# Altium schematic symbol library Connector.SchLib: 80 symbols
Pins are listed as number, name and electrical type; pins without a type are passive.

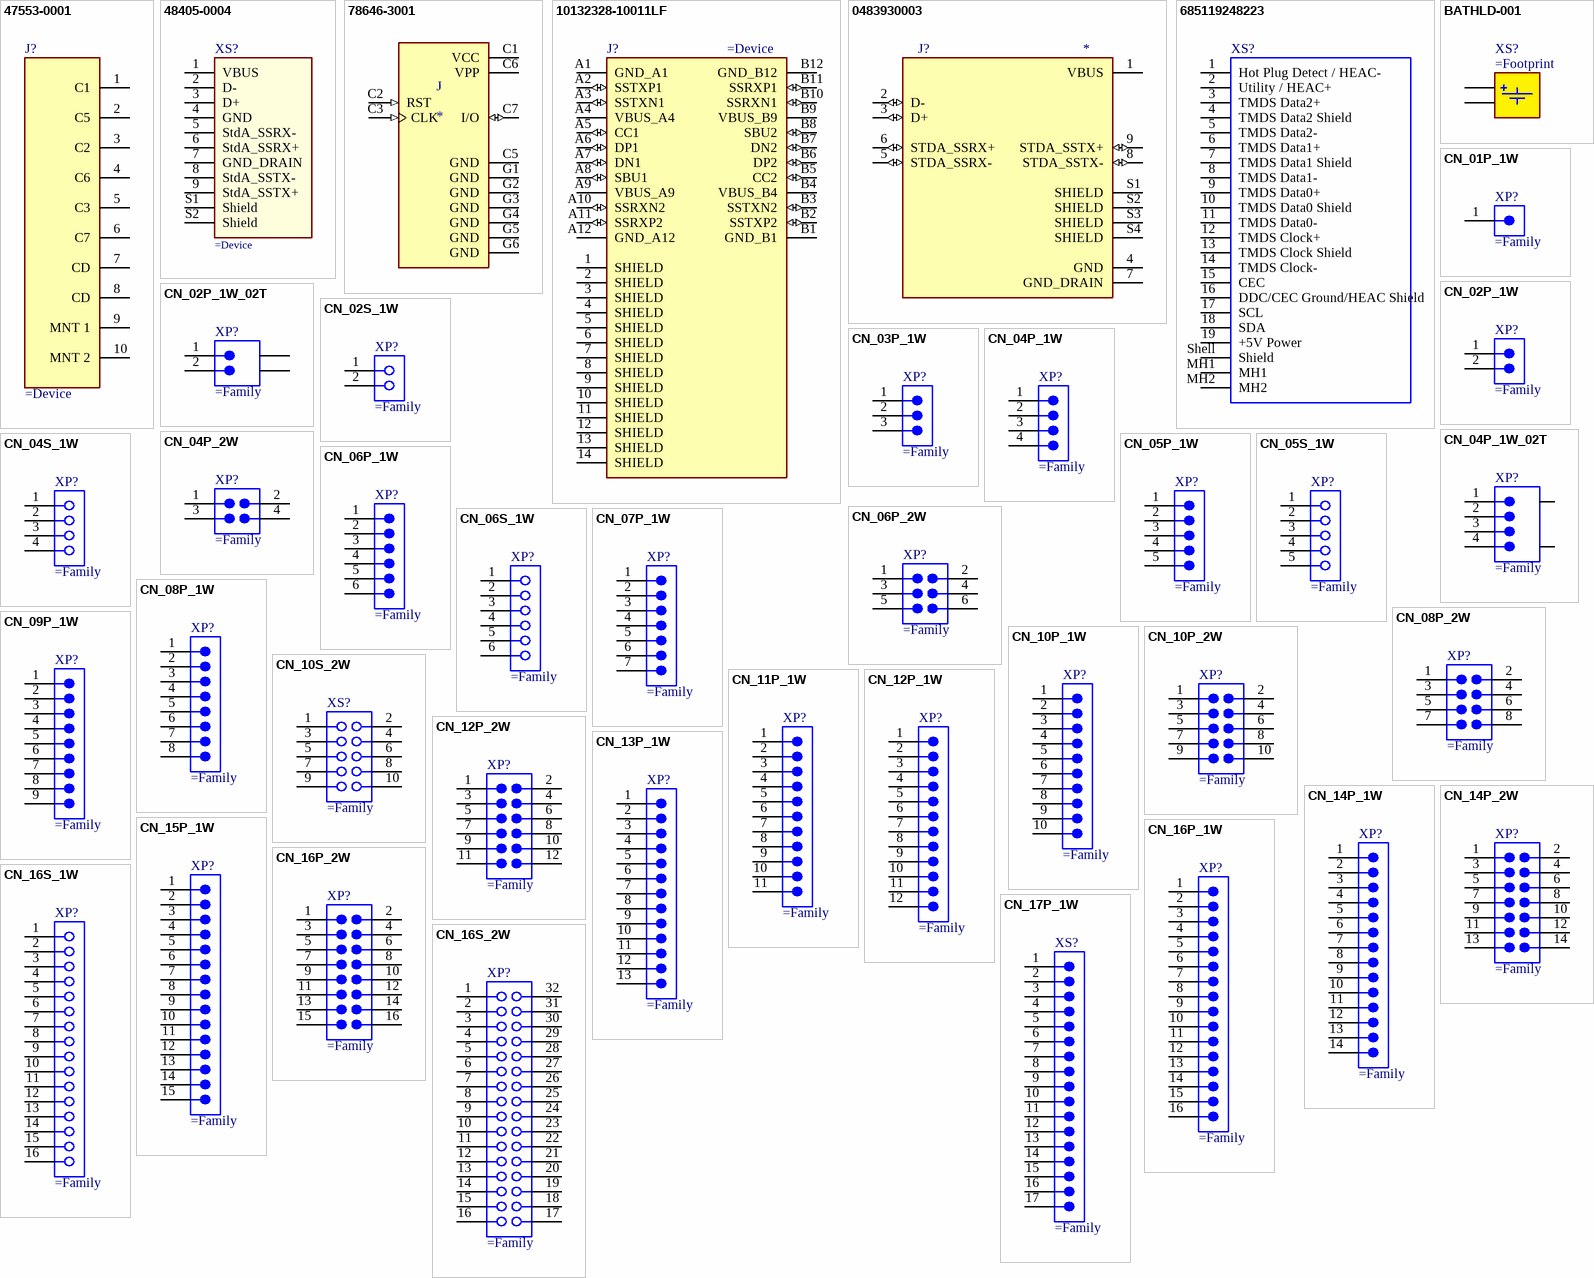
[diagram p0: symbols 47553-0001 to CN_17P_1W]

## 47553-0001
designator J?
CONN SIM CARD PUSH-PUSH R/A SMD; Manufacturer: Molex; Is Female: yes; helpURL: https://upverter.com/upn/revision/3299c90fe721584a/; ComponentLink2Description: Datasheet; Temperature: -30°C to +85°C; Package: CONN_SIMCARD_SMT; Supplier 2: Mouser; Supplier 1: Digi-Key; ComponentLink1URL: https://upverter.com/upn/revision/3299c90fe721584a/; Supplier Part Number 2: 538-47553-0001; Supplier Part Number 1: WM3293CT-ND; ComponentLink1Description: Upverter; ComponentLink2URL: https://upverter.com/datasheet/070676aa4e1537f363b587c8dae1e2890b32a909.pdf; RoHS: TRUE; Mouser Part Number: 538-47553-0001; Temperature Range High: +85°C; Digikey Description: CONN SIM CARD PUSH-PUSH R/A SMD; Digikey Part Number: WM3293CT-ND; Lead Free: yes; Temperature Range Low: -30°C
pins: 1 C1, 2 C5, 3 C2, 4 C6, 5 C3, 6 C7, 7 CD, 8 CD, 9 MNT 1, 10 MNT 2

## 48405-0004
designator XS?
USB 3.0 Type A Horizontal THT WR-COM; Part Number: 692121030100; Rated Current: 0.25 A; Gender: Female; ComponentLink1Description: Manufacturer; ComponentLink1URL: http://www.we-online.de; ComponentLink2Description: Datasheet; ComponentLink2URL: http://katalog.we-online.de/em/datasheet/692121030100.pdf; Published Date: May 2018; Publisher: Wurth Elektronik; Orientation: Horizontal; Interface Type: USB 3.0 Type A; Operating Temperature: -20 to 85 degC; Mounting Technology: THT; Packaging: Tape and Reel
pins: 1 VBUS, 2 D-, 3 D+, 4 GND, 5 StdA_SSRX-, 6 StdA_SSRX+, 7 GND_DRAIN, 8 StdA_SSTX-, 9 StdA_SSTX+, S1 Shield, S2 Shield

## 78646-3001
designator J
6 Position Card Connector Micro SIM Surface Mount, Right Angle Gold; MP: 78646-3001; MF: Molex; Price: None; Availability: Unavailable; Package: None; Value: *; SnapEDA_Link: https://www.snapeda.com/parts/78646-3001/Molex/view-part/75189/?ref=snap
footprint MOLEX_78646-3001
pins: C1 VCC (power), C2 RST (in), C3 CLK (in), C5 GND (power), C6 VPP (power), C7 I/O (io), G1 GND (power), G2 GND (power), G3 GND (power), G4 GND (power), G5 GND (power), G6 GND (power)

## 10132328-10011LF
designator J?
USB 3.1 GEN 2 Type C Connector, Input Output Connector, VERTICAL RECEPTACLE; MF: Amphenol ICC; MP: 10132328-10011LF; Purchase-URL: https://pricing.snapeda.com/search/part/10132328-10011LF/?ref=eda; Package: None; Check_prices: https://www.snapeda.com/parts/10132328-10011LF/Amphenol+FCI/view-part/?ref=eda; Value: *; SnapEDA_Link: https://www.snapeda.com/parts/10132328-10011LF/Amphenol+FCI/view-part/?ref=snap; Digi-Key_Part_Number: 609-5380-2-ND
footprint AMPHENOL_10132328-10011LF
pins: 1 SHIELD, 2 SHIELD, 3 SHIELD, 4 SHIELD, 5 SHIELD, 6 SHIELD, 7 SHIELD, 8 SHIELD, 9 SHIELD, 10 SHIELD, 11 SHIELD, 12 SHIELD, 13 SHIELD, 14 SHIELD, A1 GND_A1 (power), A2 SSTXP1 (io), A3 SSTXN1 (io), A4 VBUS_A4 (power), A5 CC1 (io), A6 DP1 (io), A7 DN1 (io), A8 SBU1 (io), A9 VBUS_A9 (power), A10 SSRXN2 (io), A11 SSRXP2 (io), A12 GND_A12 (power), B1 GND_B1 (power), B2 SSTXP2 (io), B3 SSTXN2 (io), B4 VBUS_B4 (power), B5 CC2 (io), B6 DP2 (io), B7 DN2 (io), B8 SBU2 (io), B9 VBUS_B9 (power), B10 SSRXN1 (io), B11 SSRXP1 (io), B12 GND_B12 (power)

## 0483930003
designator J?
USB-A _USB TYPE-A_ USB 3.0 _USB 3.1 Gen 1, Superspeed_ Receptacle Connector 9 Position Through Hole, Right Angle; MF: Molex; MP: 0483930003; Price: None; Value: *; Package: None; Availability: Unavailable; SnapEDA_Link: https://www.snapeda.com/parts/0483930003/Molex/view-part/556617/?ref=snap
footprint MOLEX_0483930003
pins: 1 VBUS (power), 2 D- (io), 3 D+ (io), 4 GND (power), 5 STDA_SSRX- (io), 6 STDA_SSRX+ (io), 7 GND_DRAIN (power), 8 STDA_SSTX- (io), 9 STDA_SSTX+ (io), S1 SHIELD, S2 SHIELD, S3 SHIELD, S4 SHIELD

## 685119248223
designator XS?
pins: 1 Hot Plug Detect / HEAC-, 2 Utility / HEAC+, 3 TMDS Data2+, 4 TMDS Data2 Shield, 5 TMDS Data2-, 6 TMDS Data1+, 7 TMDS Data1 Shield, 8 TMDS Data1-, 9 TMDS Data0+, 10 TMDS Data0 Shield, 11 TMDS Data0-, 12 TMDS Clock+, 13 TMDS Clock Shield, 14 TMDS Clock-, 15 CEC, 16 DDC/CEC Ground/HEAC Shield, 17 SCL, 18 SDA, 19 +5V Power, MH1, MH2, Shell Shield

## BATHLD-001
designator XS?
Battery Holder
pins: 1, 2

## CN_01P_1W
designator XP?
pins: 1

## CN_02P_1W
designator XP?
pins: 1, 2

## CN_02P_1W_02T
designator XP?
pins: 1, 2, T, T

## CN_02S_1W
designator XP?
pins: 1, 2

## CN_03P_1W
designator XP?
pins: 1, 2, 3

## CN_04P_1W
designator XP?
pins: 1, 2, 3, 4

## CN_04P_1W_02T
designator XP?
pins: 1, 2, 3, 4, T, T

## CN_04P_2W
designator XP?
pins: 1, 2, 3, 4

## CN_04S_1W
designator XP?
pins: 1, 2, 3, 4

## CN_05P_1W
designator XP?
pins: 1, 2, 3, 4, 5

## CN_05S_1W
designator XP?
pins: 1, 2, 3, 4, 5

## CN_06P_1W
designator XP?
pins: 1, 2, 3, 4, 5, 6

## CN_06P_2W
designator XP?
pins: 1, 2, 3, 4, 5, 6

## CN_06S_1W
designator XP?
pins: 1, 2, 3, 4, 5, 6

## CN_07P_1W
designator XP?
pins: 1, 2, 3, 4, 5, 6, 7

## CN_08P_1W
designator XP?
pins: 1, 2, 3, 4, 5, 6, 7, 8

## CN_08P_2W
designator XP?
pins: 1, 2, 3, 4, 5, 6, 7, 8

## CN_09P_1W
designator XP?
pins: 1, 2, 3, 4, 5, 6, 7, 8, 9

## CN_10P_1W
designator XP?
pins: 1, 2, 3, 4, 5, 6, 7, 8, 9, 10

## CN_10P_2W
designator XP?
pins: 1, 2, 3, 4, 5, 6, 7, 8, 9, 10

## CN_10S_2W
designator XS?
pins: 1, 2, 3, 4, 5, 6, 7, 8, 9, 10

## CN_11P_1W
designator XP?
pins: 1, 2, 3, 4, 5, 6, 7, 8, 9, 10, 11

## CN_12P_1W
designator XP?
pins: 1, 2, 3, 4, 5, 6, 7, 8, 9, 10, 11, 12

## CN_12P_2W
designator XP?
pins: 1, 2, 3, 4, 5, 6, 7, 8, 9, 10, 11, 12

## CN_13P_1W
designator XP?
pins: 1, 2, 3, 4, 5, 6, 7, 8, 9, 10, 11, 12, 13

## CN_14P_1W
designator XP?
pins: 1, 2, 3, 4, 5, 6, 7, 8, 9, 10, 11, 12, 13, 14

## CN_14P_2W
designator XP?
pins: 1, 2, 3, 4, 5, 6, 7, 8, 9, 10, 11, 12, 13, 14

## CN_15P_1W
designator XP?
pins: 1, 2, 3, 4, 5, 6, 7, 8, 9, 10, 11, 12, 13, 14, 15

## CN_16P_1W
designator XP?
pins: 1, 2, 3, 4, 5, 6, 7, 8, 9, 10, 11, 12, 13, 14, 15, 16

## CN_16P_2W
designator XP?
pins: 1, 2, 3, 4, 5, 6, 7, 8, 9, 10, 11, 12, 13, 14, 15, 16

## CN_16S_1W
designator XP?
pins: 1, 2, 3, 4, 5, 6, 7, 8, 9, 10, 11, 12, 13, 14, 15, 16

## CN_16S_2W
designator XP?
pins: 1, 2, 3, 4, 5, 6, 7, 8, 9, 10, 11, 12, 13, 14, 15, 16, 17, 18, 19, 20, 21, 22, 23, 24, 25, 26, 27, 28, 29, 30, 31, 32

## CN_17P_1W
designator XS?
pins: 1, 2, 3, 4, 5, 6, 7, 8, 9, 10, 11, 12, 13, 14, 15, 16, 17

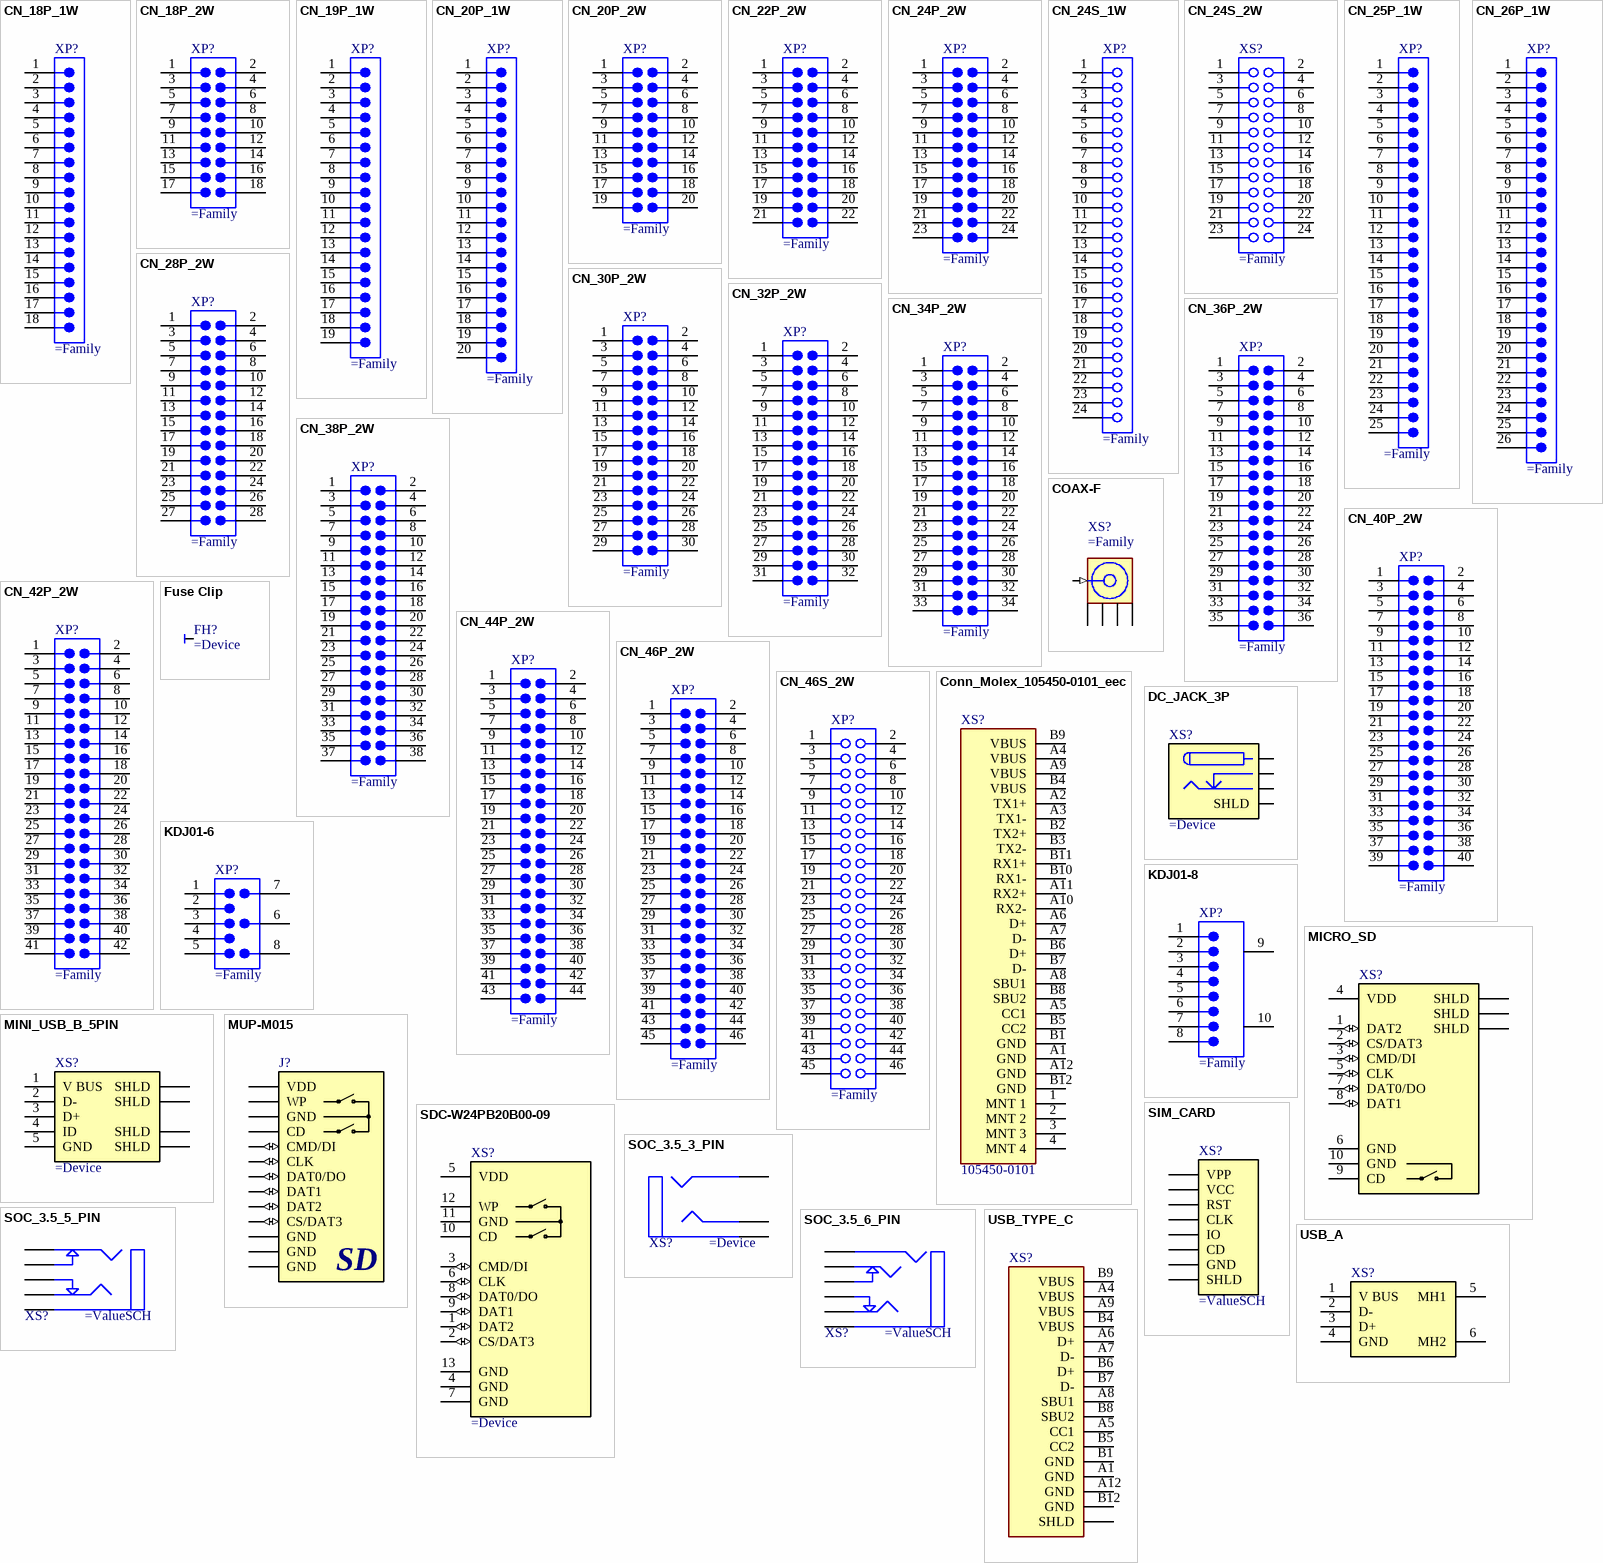
[diagram p1: symbols CN_18P_1W to USB_TYPE_C]

## CN_18P_1W
designator XP?
pins: 1, 2, 3, 4, 5, 6, 7, 8, 9, 10, 11, 12, 13, 14, 15, 16, 17, 18

## CN_18P_2W
designator XP?
pins: 1, 2, 3, 4, 5, 6, 7, 8, 9, 10, 11, 12, 13, 14, 15, 16, 17, 18

## CN_19P_1W
designator XP?
pins: 1, 2, 3, 4, 5, 6, 7, 8, 9, 10, 11, 12, 13, 14, 15, 16, 17, 18, 19

## CN_20P_1W
designator XP?
pins: 1, 2, 3, 4, 5, 6, 7, 8, 9, 10, 11, 12, 13, 14, 15, 16, 17, 18, 19, 20

## CN_20P_2W
designator XP?
pins: 1, 2, 3, 4, 5, 6, 7, 8, 9, 10, 11, 12, 13, 14, 15, 16, 17, 18, 19, 20

## CN_22P_2W
designator XP?
pins: 1, 2, 3, 4, 5, 6, 7, 8, 9, 10, 11, 12, 13, 14, 15, 16, 17, 18, 19, 20, 21, 22

## CN_24P_2W
designator XP?
pins: 1, 2, 3, 4, 5, 6, 7, 8, 9, 10, 11, 12, 13, 14, 15, 16, 17, 18, 19, 20, 21, 22, 23, 24

## CN_24S_1W
designator XP?
pins: 1, 2, 3, 4, 5, 6, 7, 8, 9, 10, 11, 12, 13, 14, 15, 16, 17, 18, 19, 20, 21, 22, 23, 24

## CN_24S_2W
designator XS?
pins: 1, 2, 3, 4, 5, 6, 7, 8, 9, 10, 11, 12, 13, 14, 15, 16, 17, 18, 19, 20, 21, 22, 23, 24

## CN_25P_1W
designator XP?
pins: 1, 2, 3, 4, 5, 6, 7, 8, 9, 10, 11, 12, 13, 14, 15, 16, 17, 18, 19, 20, 21, 22, 23, 24, 25

## CN_26P_1W
designator XP?
pins: 1, 2, 3, 4, 5, 6, 7, 8, 9, 10, 11, 12, 13, 14, 15, 16, 17, 18, 19, 20, 21, 22, 23, 24, 25, 26

## CN_28P_2W
designator XP?
pins: 1, 2, 3, 4, 5, 6, 7, 8, 9, 10, 11, 12, 13, 14, 15, 16, 17, 18, 19, 20, 21, 22, 23, 24, 25, 26, 27, 28

## CN_30P_2W
designator XP?
pins: 1, 2, 3, 4, 5, 6, 7, 8, 9, 10, 11, 12, 13, 14, 15, 16, 17, 18, 19, 20, 21, 22, 23, 24, 25, 26, 27, 28, 29, 30

## CN_32P_2W
designator XP?
pins: 1, 2, 3, 4, 5, 6, 7, 8, 9, 10, 11, 12, 13, 14, 15, 16, 17, 18, 19, 20, 21, 22, 23, 24, 25, 26, 27, 28, 29, 30, 31, 32

## CN_34P_2W
designator XP?
pins: 1, 2, 3, 4, 5, 6, 7, 8, 9, 10, 11, 12, 13, 14, 15, 16, 17, 18, 19, 20, 21, 22, 23, 24, 25, 26, 27, 28, 29, 30, 31, 32, 33, 34

## CN_36P_2W
designator XP?
pins: 1, 2, 3, 4, 5, 6, 7, 8, 9, 10, 11, 12, 13, 14, 15, 16, 17, 18, 19, 20, 21, 22, 23, 24, 25, 26, 27, 28, 29, 30, 31, 32, 33, 34, 35, 36

## CN_38P_2W
designator XP?
pins: 1, 2, 3, 4, 5, 6, 7, 8, 9, 10, 11, 12, 13, 14, 15, 16, 17, 18, 19, 20, 21, 22, 23, 24, 25, 26, 27, 28, 29, 30, 31, 32, 33, 34, 35, 36, 37, 38

## CN_40P_2W
designator XP?
pins: 1, 2, 3, 4, 5, 6, 7, 8, 9, 10, 11, 12, 13, 14, 15, 16, 17, 18, 19, 20, 21, 22, 23, 24, 25, 26, 27, 28, 29, 30, 31, 32, 33, 34, 35, 36, 37, 38, 39, 40

## CN_42P_2W
designator XP?
pins: 1, 2, 3, 4, 5, 6, 7, 8, 9, 10, 11, 12, 13, 14, 15, 16, 17, 18, 19, 20, 21, 22, 23, 24, 25, 26, 27, 28, 29, 30, 31, 32, 33, 34, 35, 36, 37, 38, 39, 40, 41, 42

## CN_44P_2W
designator XP?
pins: 1, 2, 3, 4, 5, 6, 7, 8, 9, 10, 11, 12, 13, 14, 15, 16, 17, 18, 19, 20, 21, 22, 23, 24, 25, 26, 27, 28, 29, 30, 31, 32, 33, 34, 35, 36, 37, 38, 39, 40, 41, 42, 43, 44

## CN_46P_2W
designator XP?
pins: 1, 2, 3, 4, 5, 6, 7, 8, 9, 10, 11, 12, 13, 14, 15, 16, 17, 18, 19, 20, 21, 22, 23, 24, 25, 26, 27, 28, 29, 30, 31, 32, 33, 34, 35, 36, 37, 38, 39, 40, 41, 42, 43, 44, 45, 46

## CN_46S_2W
designator XP?
pins: 1, 2, 3, 4, 5, 6, 7, 8, 9, 10, 11, 12, 13, 14, 15, 16, 17, 18, 19, 20, 21, 22, 23, 24, 25, 26, 27, 28, 29, 30, 31, 32, 33, 34, 35, 36, 37, 38, 39, 40, 41, 42, 43, 44, 45, 46

## COAX-F
designator XS?
RF Coaxial PCB Connector, MCX; Thru-Hole, Right-Angle Mount Socket, Blunt Post Terminal, 50 Ohm Impedance
pins: 1 Signal (in) "Signal Pin", 2 GND (power), 3 GND (power), 4 GND (power), 5 GND (power)

## Conn_Molex_105450-0101_eec
designator XS?  Part Number: 105450-0101  (hidden comment: Conn_Molex_105450-0101_eec)
CONN RCPT USB C 3.1 SMT R/A; Manufacturer: Molex; Current Rating: 0.25A, 1A, 5A; Voltage - Rated: 30VAC/DC; Is Female: yes; Shielding: Shielded; Number of Ports: 1; Mating Cycles: 10000; helpURL: https://upverter.com/upn/revision/e44e2da058d627cb/; ComponentLink2Description: Datasheet; Temperature: -30°C to +85°C; Package: CONN_SMT_8MM94_7MM9_USB; Supplier 2: Mouser; Supplier 1: Digi-Key; ComponentLink1URL: https://upverter.com/upn/revision/e44e2da058d627cb/; Supplier Part Number 2: 538-105450-0101; Supplier Part Number 1: WM12856CT-ND; ComponentLink1Description: Upverter; ComponentLink2URL: http://www.molex.com/pdm_docs/sd/1054500101_sd.pdf; RoHS: TRUE; Mouser Part Number: 538-105450-0101; Temperature Range High: +85°C; Temperature Range Low: -30°C; Digikey Part Number: WM12856CT-ND; Lead Free: yes; Contact Finish: Gold; Digikey Description: CONN RCPT USB C 3.1 SMT R/A
footprint Molex_105450-0101_0
pins: 1 MNT 1, 2 MNT 2, 3 MNT 3, 4 MNT 4, A1 GND (power), A2 TX1+, A3 TX1-, A4 VBUS (power), A5 CC1, A6 D+, A7 D-, A8 SBU1, A9 VBUS (power), A10 RX2-, A11 RX2+, A12 GND (power), B1 GND (power), B2 TX2+, B3 TX2-, B4 VBUS (power), B5 CC2, B6 D+, B7 D-, B8 SBU2, B9 VBUS (power), B10 RX1-, B11 RX1+, B12 GND (power)

## DC_JACK_3P
designator XS?
Low Voltage Power Supply Connector
pins: 1 (power), 2 (power), 3 (power), 4 SHLD (power)

## Fuse Clip
designator FH?
pins: 1

## KDJ01-6
designator XP?
pins: 1, 2, 3, 4, 5, 6, 7, 8

## KDJ01-8
designator XP?
pins: 1, 2, 3, 4, 5, 6, 7, 8, 9, 10

## MICRO_SD
designator XS?
footprint TFC-WPBP-08
pins: 1 DAT2 (io), 2 CS/DAT3 (io), 3 CMD/DI (io), 4 VDD (power), 5 CLK (io), 6 GND (power), 7 DAT0/DO (io), 8 DAT1 (io), 9 CD (oc), 10 GND (power), SHLD, SHLD, SHLD

## MINI_USB_B_5PIN
designator XS?
pins: 1 V BUS "USB Vcc [Red]", 2 D- "USB Data - [White]", 3 D+ "USB Data + [Green]", 4 ID, 5 GND "Ground [Black]", SHLD "Shell", SHLD "Shell", SHLD "Shell", SHLD "Shell"

## MUP-M015
designator J?
SD Card Connector
pins: CD (oc), CLK (io), CMD CMD/DI (io), DAT0 DAT0/DO (io), DAT1 (io), DAT2 (io), DAT3 CS/DAT3 (io), GND (power), GND (power), GND (power), GND (power), VDD (power), WP
text: SD

## SDC-W24PB20B00-09
designator XS?
SD Card Connector
footprint SDC-W24PB20B00-09
pins: 1 DAT2 (io), 2 CS/DAT3 (io), 3 CMD/DI (io), 4 GND (power), 5 VDD (power), 6 CLK (io), 7 GND (power), 8 DAT0/DO (io), 9 DAT1 (io), 10 CD (oc), 11 GND (power), 12 WP, 13 GND (power)

## SIM_CARD
designator XS?
pins: CD "Shell", CLK "USB Data + [Green]", GND, IO "Shell", RST "USB Data - [White]", SHLD "Shell", VCC "USB Vcc [Red]", VPP "Ground [Black]"

## SOC_3.5_3_PIN
designator XS?
pins: COM, L, R

## SOC_3.5_5_PIN
designator XS?
3.5 mm Jack Connector
pins: RING1, RING1_SW, SLEEVE, TIP, TIP_SW

## SOC_3.5_6_PIN
designator XS?
3.5 mm Jack Connector
pins: RING1, RING1_SW, RING2, SLEEVE, TIP, TIP_SW

## USB_A
designator XS?
pins: 1 V BUS "USB Vcc [Red]", 2 D- "USB Data - [White]", 3 D+ "USB Data + [Green]", 4 GND "Ground [Black]", 5 MH1 "Shell", 6 MH2 "Shell"

## USB_TYPE_C
designator XS?
CONN RCPT USB C 3.1 SMT R/A
pins: A1 GND (power), A4 VBUS (power), A5 CC1, A6 D+, A7 D-, A8 SBU1, A9 VBUS (power), A12 GND (power), B1 GND (power), B4 VBUS (power), B5 CC2, B6 D+, B7 D-, B8 SBU2, B9 VBUS (power), B12 GND (power), SHLD

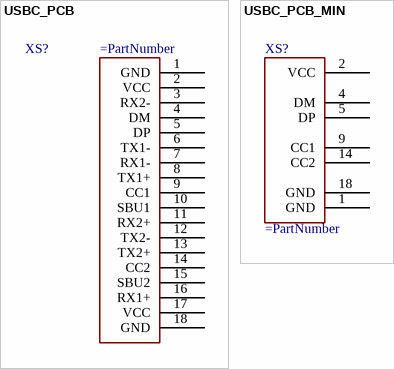
[diagram p2: symbols USBC_PCB to USBC_PCB_MIN]

## USBC_PCB
designator XS?
pins: 1 GND, 2 VCC, 3 RX2-, 4 DM, 5 DP, 6 TX1-, 7 RX1-, 8 TX1+, 9 CC1, 10 SBU1, 11 RX2+, 12 TX2-, 13 TX2+, 14 CC2, 15 SBU2, 16 RX1+, 17 VCC, 18 GND

## USBC_PCB_MIN
designator XS?
pins: 1 GND, 2 VCC, 4 DM, 5 DP, 9 CC1, 14 CC2, 18 GND